# Altium footprint library LIB_PCB.PcbLib: 28 footprints (part 1 of 2)
Each footprint in its own frame and in the unit in brackets; x right, y up, seen from the top. Pads: shape width x height; smd on the part's side, far side on the other; paste and mask are expansions set on the pad; w line width, h text height; cw(c..) or ccw(c..) is an arc to the next point about the centre after c.
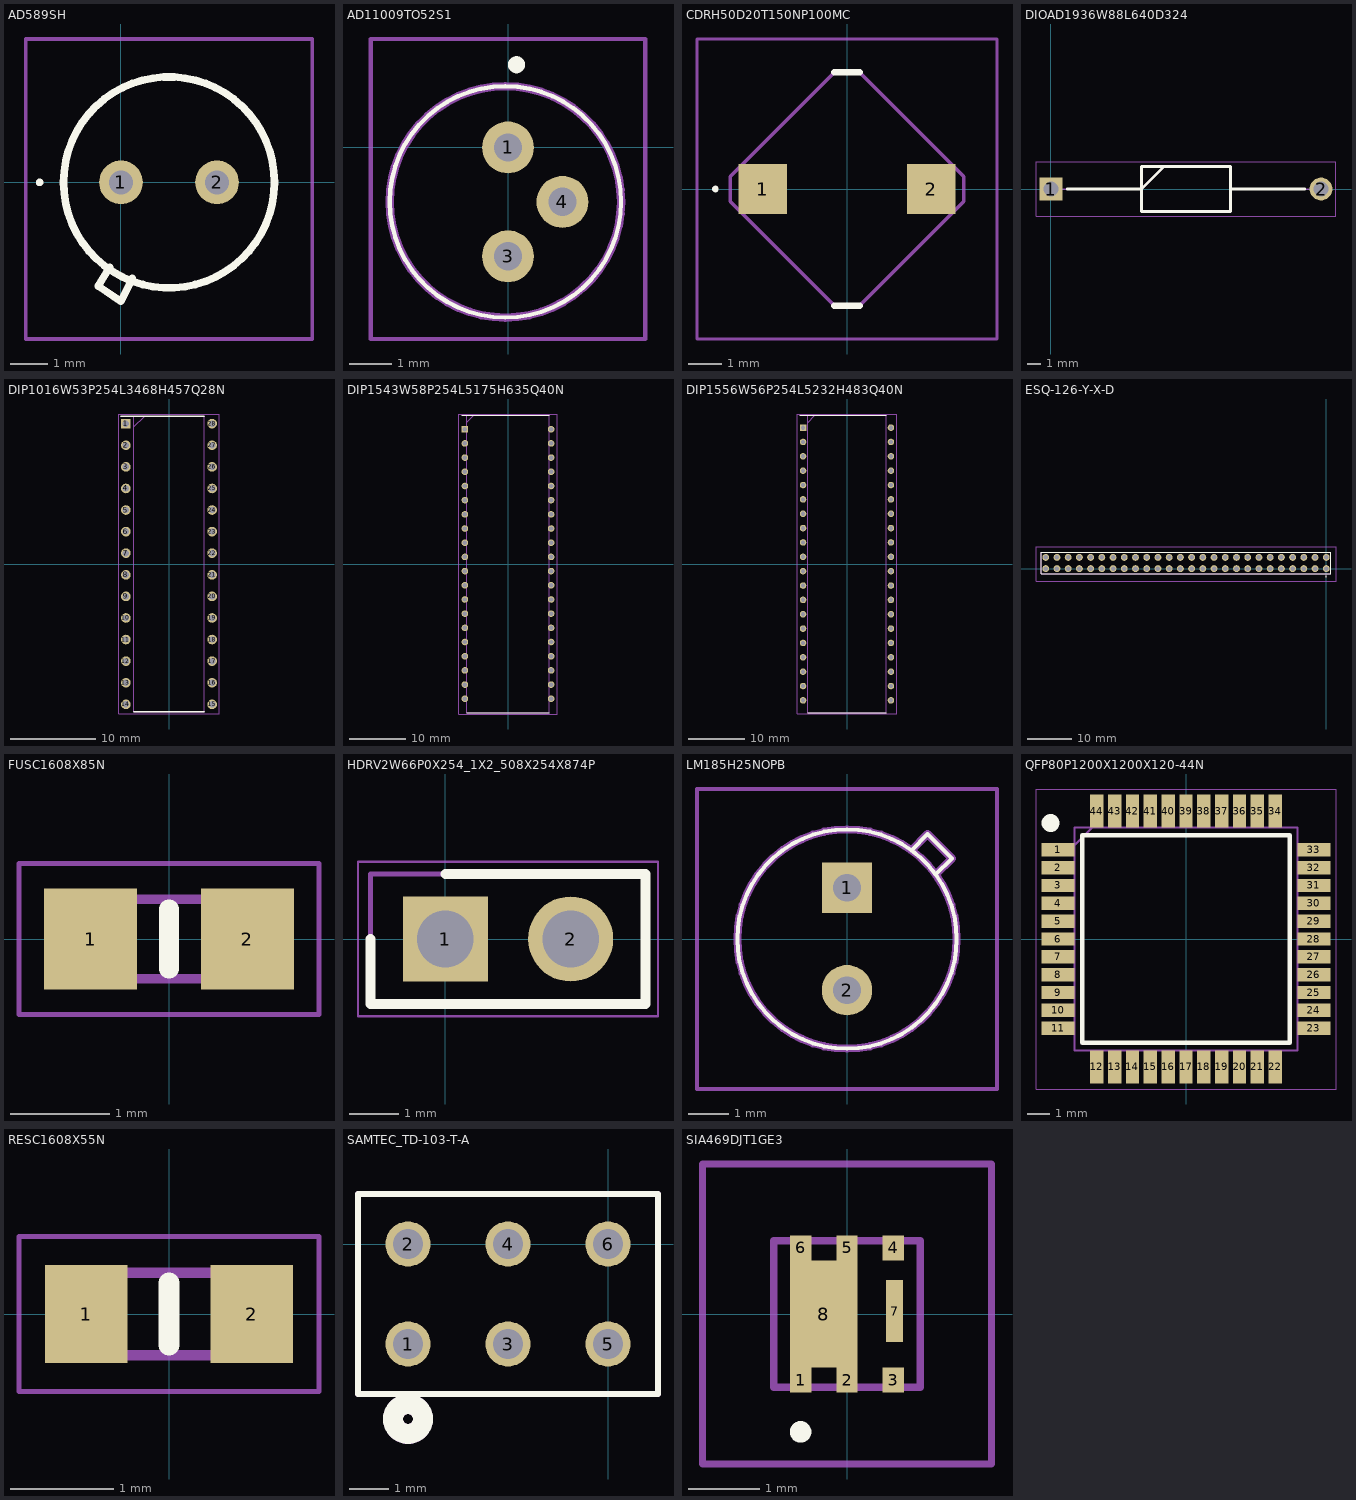
[diagram p0: the footprints below, top view; thin cyan lines are the x and y axes]

## AD589SH [mm]
pads (2):
  round 1.155 hole 0.63: 1(0,0) 2(2.54,0)
Top Overlay:
  lines w0.1: -2.2,0 ccw(c-2.15,0) -2.1,0 ccw(c-2.15,0) -2.2,0
  lines w0.2: -0.3,-2.24 -0.6,-2.74 0,-3.14 0.3,-2.54 ; -1.518,0 ccw(c1.27,0) 4.058,0 ccw(c1.27,0) -1.518,0
Mechanical 13:
  lines w0.1: -0.3,-2.24 -0.6,-2.74 0,-3.14 0.3,-2.54 ; -1.518,0 ccw(c1.27,0) 4.058,0 ccw(c1.27,0) -1.518,0
Mechanical 15:
  lines w0.1: -2.518,-4.14 5.058,-4.14 5.058,3.788 -2.518,3.788 -2.518,-4.14

## AD11009TO52S1 [mm]
pads (3):
  round 1.21 hole 0.66: 1(0,0) 3(0,-2.54) 4(1.27,-1.27)
Top Overlay:
  lines w0.1: -2.761,-1.27 ccw(c-0.061,-1.27) 2.639,-1.27 ccw(c-0.061,-1.27) -2.761,-1.27
  lines w0.2: 0.1,1.93 ccw(c0.2,1.93) 0.3,1.93 ccw(c0.2,1.93) 0.1,1.93
Mechanical 13:
  lines w0.2: -2.761,-1.27 ccw(c-0.061,-1.27) 2.639,-1.27 ccw(c-0.061,-1.27) -2.761,-1.27
Mechanical 15:
  lines w0.1: -3.2,-4.47 3.2,-4.47 3.2,2.53 -3.2,2.53 -3.2,-4.47
3D body "AD1100-9-TO52-S1.stp": height 3.7, standoff -5, extent -2.7,-3.958 2.7,1.418

## CDRH50D20T150NP100MC [mm]
pads (2):
  rect 1.45x1.5 smd: 1(-2.525,0) 2(2.525,0)
Top Overlay:
  lines w0.1: -4,0 ccw(c-3.95,0) -3.9,0 ccw(c-3.95,0) -4,0
  lines w0.2: -0.375,-3.5 0.375,-3.5 ; -0.375,3.5 0.375,3.5
Mechanical 13:
  lines w0.1: -3.5,-0.375 -3.5,0.375 -0.375,3.5 0.375,3.5 3.5,0.375 3.5,-0.375 0.375,-3.5 -0.375,-3.5 -3.5,-0.375
Mechanical 15:
  lines w0.1: -4.5,-4.5 4.5,-4.5 4.5,4.5 -4.5,4.5 -4.5,-4.5
3D body "CDRH50D20T150NP-100MC.stp": height 2.3, standoff 0, extent -3.5,-3.5 3.5,3.5

## DIOAD1936W88L640D324 [mm]
pads (2):
  rect 1.65x1.65 hole 1.1: 1(0,0)
  round 1.65 hole 1.1: 2(19.4,0)
Top Overlay:
  lines w0.2: 1.175,0 6.5,0 8.12,1.62 ; 12.9,0 18.225,0 ; 6.5,-1.62 12.9,-1.62 12.9,1.62 6.5,1.62 6.5,-1.62
Mechanical 13:
  lines w0.1: 0,0 6.5,0 8.12,1.62 ; 12.9,0 19.4,0 ; 6.5,-1.62 12.9,-1.62 12.9,1.62 6.5,1.62 6.5,-1.62
Mechanical 15:
  lines w0.05: -1.075,-1.97 20.475,-1.97 20.475,1.97 -1.075,1.97 -1.075,-1.97
3D body "P6KE6V8A.stp": height 3.38, standoff -3.2, extent -0.38,-1.608 19.78,1.608

## DIP1016W53P254L3468H457Q28N [mm]
pads (28):
  rect 1.133x1.133 hole 0.733: 1(-5.08,16.51)
  round 1.133 hole 0.733: 2(-5.08,13.97) 3(-5.08,11.43) 4(-5.08,8.89) 5(-5.08,6.35) 6(-5.08,3.81) 7(-5.08,1.27) 8(-5.08,-1.27) 9(-5.08,-3.81) 10(-5.08,-6.35) 11(-5.08,-8.89) 12(-5.08,-11.43) 13(-5.08,-13.97) 14(-5.08,-16.51) 15(5.08,-16.51) 16(5.08,-13.97) 17(5.08,-11.43) 18(5.08,-8.89) 19(5.08,-6.35) 20(5.08,-3.81) 21(5.08,-1.27) 22(5.08,1.27) 23(5.08,3.81) 24(5.08,6.35) 25(5.08,8.89) 26(5.08,11.43) 27(5.08,13.97) 28(5.08,16.51)
Top Overlay:
  lines w0.2: -5.646,17.399 4.128,17.399 ; -4.128,-17.399 4.128,-17.399
Mechanical 13:
  lines w0.1: -4.128,16.129 -2.858,17.399 ; -4.128,-17.399 4.128,-17.399 4.128,17.399 -4.128,17.399 -4.128,-17.399
Mechanical 15:
  lines w0.05: -5.896,-17.649 5.896,-17.649 5.896,17.649 -5.896,17.649 -5.896,-17.649
3D body "ATMEGA328-PU.stp": height 4.57, standoff -3.5, extent -5.213,-17.338 5.213,17.338

## DIP1543W58P254L5175H635Q40N [mm]
pads (40):
  rect 1.184x1.184 hole 0.784: 1(-7.715,24.13)
  round 1.184 hole 0.784: 2(-7.715,21.59) 3(-7.715,19.05) 4(-7.715,16.51) 5(-7.715,13.97) 6(-7.715,11.43) 7(-7.715,8.89) 8(-7.715,6.35) 9(-7.715,3.81) 10(-7.715,1.27) 11(-7.715,-1.27) 12(-7.715,-3.81) 13(-7.715,-6.35) 14(-7.715,-8.89) 15(-7.715,-11.43) 16(-7.715,-13.97) 17(-7.715,-16.51) 18(-7.715,-19.05) 19(-7.715,-21.59) 20(-7.715,-24.13) 21(7.715,-24.13) 22(7.715,-21.59) 23(7.715,-19.05) 24(7.715,-16.51) 25(7.715,-13.97) 26(7.715,-11.43) 27(7.715,-8.89) 28(7.715,-6.35) 29(7.715,-3.81) 30(7.715,-1.27) 31(7.715,1.27) 32(7.715,3.81) 33(7.715,6.35) 34(7.715,8.89) 35(7.715,11.43) 36(7.715,13.97) 37(7.715,16.51) 38(7.715,19.05) 39(7.715,21.59) 40(7.715,24.13)
Top Overlay:
  lines w0.2: -8.307,26.606 7.366,26.606 ; -7.366,-26.606 7.366,-26.606
Mechanical 13:
  lines w0.1: -7.366,25.336 -6.096,26.606 ; -7.366,-26.606 7.366,-26.606 7.366,26.606 -7.366,26.606 -7.366,-26.606
Mechanical 15:
  lines w0.05: -8.78,-26.856 8.78,-26.856 8.78,26.856 -8.78,26.856 -8.78,-26.856
3D body "ATMEGA324PA-PU.stp": height 6.35, standoff -3.5, extent -7.861,-25.876 7.861,25.876

## DIP1556W56P254L5232H483Q40N [mm]
pads (40):
  rect 1.159x1.159 hole 0.759: 1(-7.779,24.13)
  round 1.159 hole 0.759: 2(-7.779,21.59) 3(-7.779,19.05) 4(-7.779,16.51) 5(-7.779,13.97) 6(-7.779,11.43) 7(-7.779,8.89) 8(-7.779,6.35) 9(-7.779,3.81) 10(-7.779,1.27) 11(-7.779,-1.27) 12(-7.779,-3.81) 13(-7.779,-6.35) 14(-7.779,-8.89) 15(-7.779,-11.43) 16(-7.779,-13.97) 17(-7.779,-16.51) 18(-7.779,-19.05) 19(-7.779,-21.59) 20(-7.779,-24.13) 21(7.779,-24.13) 22(7.779,-21.59) 23(7.779,-19.05) 24(7.779,-16.51) 25(7.779,-13.97) 26(7.779,-11.43) 27(7.779,-8.89) 28(7.779,-6.35) 29(7.779,-3.81) 30(7.779,-1.27) 31(7.779,1.27) 32(7.779,3.81) 33(7.779,6.35) 34(7.779,8.89) 35(7.779,11.43) 36(7.779,13.97) 37(7.779,16.51) 38(7.779,19.05) 39(7.779,21.59) 40(7.779,24.13)
Top Overlay:
  lines w0.2: -8.358,26.289 6.985,26.289 ; -6.985,-26.289 6.985,-26.289
Mechanical 13:
  lines w0.1: -6.985,25.019 -5.715,26.289 ; -6.985,-26.289 6.985,-26.289 6.985,26.289 -6.985,26.289 -6.985,-26.289
Mechanical 15:
  lines w0.05: -8.767,-26.539 8.767,-26.539 8.767,26.539 -8.767,26.539 -8.767,-26.539
3D body "ATMEGA324P-20PU.stp": height 4.83, standoff -3.5, extent -7.919,-26.162 7.919,26.162

## ESQ-126-Y-X-D [mm]
pads (52):
  round 1.55 hole 1.02: 1(0,0) 2(0,2.54) 3(-2.54,0) 4(-2.54,2.54) 5(-5.08,0) 6(-5.08,2.54) 7(-7.62,0) 8(-7.62,2.54) 9(-10.16,0) 10(-10.16,2.54) 11(-12.7,0) 12(-12.7,2.54) 13(-15.24,0) 14(-15.24,2.54) 15(-17.78,0) 16(-17.78,2.54) 17(-20.32,0) 18(-20.32,2.54) 19(-22.86,0) 20(-22.86,2.54) 21(-25.4,0) 22(-25.4,2.54) 23(-27.94,0) 24(-27.94,2.54) 25(-30.48,0) 26(-30.48,2.54) 27(-33.02,0) 28(-33.02,2.54) 29(-35.56,0) 30(-35.56,2.54) 31(-38.1,0) 32(-38.1,2.54) 33(-40.64,0) 34(-40.64,2.54) 35(-43.18,0) 36(-43.18,2.54) 37(-45.72,0) 38(-45.72,2.54) 39(-48.26,0) 40(-48.26,2.54) 41(-50.8,0) 42(-50.8,2.54) 43(-53.34,0) 44(-53.34,2.54) 45(-55.88,0) 46(-55.88,2.54) 47(-58.42,0) 48(-58.42,2.54) 49(-60.96,0) 50(-60.96,2.54) 51(-63.5,0) 52(-63.5,2.54)
Top Overlay:
  circle w0.2: c-0.05,-1.75 r0.05
  lines w0.1: -64.5,-1.205 -64.5,3.745 1,3.745 1,-1.205 -64.5,-1.205
Mechanical 13:
  lines w0.2: -64.5,-1.205 -64.5,3.745 1,3.745 1,-1.205 -64.5,-1.205
Mechanical 15:
  lines w0.05: -65.7,-2.85 -65.7,4.945 2.2,4.945 2.2,-2.85 -65.7,-2.85
3D body "ESQ-126-14-L-D.stp": height 16.11, standoff -7.13, extent -64.974,-1.21 1.574,3.87

## FUSC1608X85N [mm]
pads (2):
  rect 0.94x1.02 smd: 1(-0.79,0) 2(0.79,0)
Top Overlay:
  lines w0.2: 0,-0.3 0,0.3
Mechanical 13:
  lines w0.1: -0.8,-0.4 -0.8,0.4 0.8,0.4 0.8,-0.4 -0.8,-0.4
Mechanical 15:
  lines w0.05: -1.51,-0.76 -1.51,0.76 1.51,0.76 1.51,-0.76 -1.51,-0.76
3D body "FEMTOSMDC005F-2.stp": height 0.85, standoff 0.01, extent -0.801,-0.401 0.801,0.401

## HDRV2W66P0X254_1X2_508X254X874P [mm]
pads (2):
  rect 1.725x1.725 hole 1.15: 1(0,0)
  round 1.725 hole 1.15: 2(2.54,0)
Top Overlay:
  lines w0.2: -1.52,0 -1.52,-1.32 4.06,-1.32 4.06,1.32 0,1.32
Mechanical 13:
  lines w0.1: -1.52,-1.32 4.06,-1.32 4.06,1.32 -1.52,1.32 -1.52,-1.32
Mechanical 15:
  lines w0.05: -1.77,-1.57 4.31,-1.57 4.31,1.57 -1.77,1.57 -1.77,-1.57
3D body "M20-9990246.stp": height 8.74, standoff -3, extent -1.27,-1.27 3.81,1.27

## LM185H25NOPB [mm]
pads (2):
  rect 1.252x1.252 hole 0.683: 1(0,1.27)
  round 1.252 hole 0.683: 2(0,-1.27)
Top Overlay:
  lines w0.1: 1.6,2.2 2,2.6 2.6,2 2.2,1.6 ; -2.72,0 cw(c0,0) 2.72,0 cw(c0,0) -2.72,0
Mechanical 13:
  lines w0.2: 1.6,2.2 2,2.6 2.6,2 2.2,1.6 ; -2.72,0 cw(c0,0) 2.72,0 cw(c0,0) -2.72,0
Mechanical 15:
  lines w0.1: -3.72,-3.72 -3.72,3.72 3.72,3.72 3.72,-3.72 -3.72,-3.72
3D body "LM185H-2.5_NOPB.stp": height 2.35, standoff -10.34, extent -2.713,-2.714 2.896,2.878

## PCBComponent_1 [mm]

## QFP80P1200X1200X120-44N [mm]
pads (44):
  rect 1.475x0.6 smd: 1(-5.738,4) 2(-5.738,3.2) 3(-5.738,2.4) 4(-5.738,1.6) 5(-5.738,0.8) 6(-5.738,0) 7(-5.738,-0.8) 8(-5.738,-1.6) 9(-5.738,-2.4) 10(-5.738,-3.2) 11(-5.738,-4) 23(5.738,-4) 24(5.738,-3.2) 25(5.738,-2.4) 26(5.738,-1.6) 27(5.738,-0.8) 28(5.738,0) 29(5.738,0.8) 30(5.738,1.6) 31(5.738,2.4) 32(5.738,3.2) 33(5.738,4)
  rect 0.6x1.475 smd: 12(-4,-5.738) 13(-3.2,-5.738) 14(-2.4,-5.738) 15(-1.6,-5.738) 16(-0.8,-5.738) 17(0,-5.738) 18(0.8,-5.738) 19(1.6,-5.738) 20(2.4,-5.738) 21(3.2,-5.738) 22(4,-5.738) 34(4,5.738) 35(3.2,5.738) 36(2.4,5.738) 37(1.6,5.738) 38(0.8,5.738) 39(0,5.738) 40(-0.8,5.738) 41(-1.6,5.738) 42(-2.4,5.738) 43(-3.2,5.738) 44(-4,5.738)
Top Overlay:
  circle w0.4: c-6.075,5.2 r0.2
  lines w0.2: -4.65,-4.65 4.65,-4.65 4.65,4.65 -4.65,4.65 -4.65,-4.65
Mechanical 13:
  lines w0.1: -5,4.2 -4.2,5 ; -5,-5 5,-5 5,5 -5,5 -5,-5
Mechanical 15:
  lines w0.05: -6.725,-6.725 6.725,-6.725 6.725,6.725 -6.725,6.725 -6.725,-6.725
3D body "ATMEGA1284-AU.stp": height 1.2, standoff 0, extent -6,-6 6,6

## RESC1608X55N [mm]
pads (2):
  rect 0.8x0.95 smd: 1(-0.8,0) 2(0.8,0)
Top Overlay:
  lines w0.2: 0,-0.3 0,0.3
Mechanical 13:
  lines w0.1: -0.8,-0.4 0.8,-0.4 0.8,0.4 -0.8,0.4 -0.8,-0.4
Mechanical 15:
  lines w0.05: -1.45,-0.75 1.45,-0.75 1.45,0.75 -1.45,0.75 -1.45,-0.75
3D body "RC0603JR-070RL.stp": height 0.55, standoff 0, extent -0.8,-0.4 0.8,0.4

## SAMTEC_TD-103-T-A [mil]
pads (6):
  round 45 hole 30: 1(-200,-100) 2(-200,0) 3(-100,-100) 4(-100,0) 5(0,-100) 6(0,0)
Top Overlay:
  lines w6: -250,-150 -250,50 50,50 50,-150 -250,-150
  lines w20: -215,-175 cw(c-200,-175) -185,-175 cw(c-200,-175) -215,-175
Mechanical 13:
  lines w6: -250,-150 -250,50 50,50 50,-150 -250,-150
  lines w20: -200,-190 cw(c-200,-175) -200,-160 cw(c-200,-175) -200,-190

## SIA469DJT1GE3 [mm]
pads (8):
  rect 0.3x0.35 smd: 1(-0.65,-0.925) 2(0,-0.925) 3(0.65,-0.925) 4(0.65,0.925) 5(0,0.925) 6(-0.65,0.925)
  rect 0.235x0.87 smd: 7(0.667,0.04)
  rect 0.95x1.5 smd: 8(-0.325,0)
Top Overlay:
  lines w0.2: -0.65,-1.7 cw(c-0.65,-1.65) -0.65,-1.6 ; -0.65,-1.7 ccw(c-0.65,-1.65) -0.65,-1.6 ; -0.65,-1.7 cw(c-0.65,-1.65) -0.65,-1.6
Mechanical 13:
  lines w0.1: -1.025,-1.025 1.025,-1.025 1.025,1.025 -1.025,1.025 -1.025,-1.025
Mechanical 15:
  lines w0.1: -2.025,-2.1 2.025,-2.1 2.025,2.1 -2.025,2.1 -2.025,-2.1
3D body "SIA469DJ-T1-GE3.stp": height 0.9, standoff 0, extent -1.025,-1.07 1.025,1.07